# Altium schematic symbol library SRN2009T-R47M.SchLib: 1 symbol
Pins are listed as number, name and electrical type; pins without a type are passive.

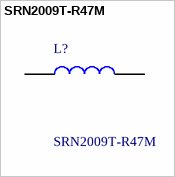
[diagram p0: symbol SRN2009T-R47M]

## SRN2009T-R47M
designator L?
Inductor Power Semi-Shielded Wirewound 470nH 20% 1MHz 25Q-Factor Ferrite 2A 38mOhm DCR 0806 T/R; Manufacturer_Name: Bourns; Geometry.Height: 0.95mm; Manufacturer_Part_Number: SRN2009T-R47M; Mouser Part Number: 652-SRN2009T-R47M; Mouser Price/Stock: https://www.mouser.co.uk/ProductDetail/Bourns/SRN2009T-R47M?qs=xhbEVWpZdWfg36AS4swllw%3D%3D; Arrow Part Number: SRN2009T-R47M; Arrow Price/Stock: https://www.arrow.com/en/products/srn2009t-r47m/bourns?region=nac; Datasheet Link: https://componentsearchengine.com/Datasheets/1/SRN2009T-R47M.pdf
footprint INDC2016X95N
pins: 1, 2